# Altium footprint library VSONP.PCBLIB: 1 footprints
Each footprint in its own frame and in the unit in brackets; x right, y up, seen from the top. Pads: shape width x height; smd on the part's side, far side on the other; paste and mask are expansions set on the pad; w line width, h text height; cw(c..) or ccw(c..) is an arc to the next point about the centre after c.
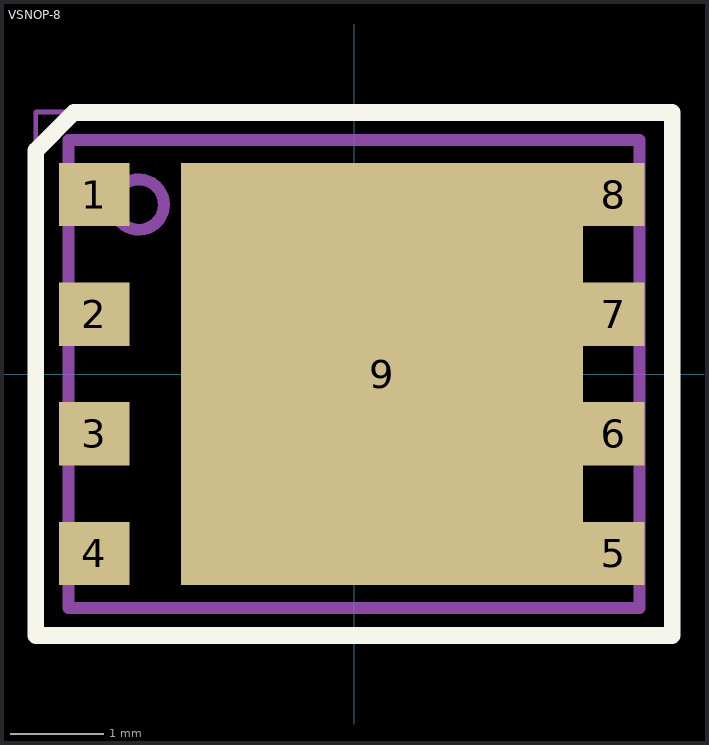
[diagram p0: the footprint, top view; thin cyan lines are the x and y axes]

## VSNOP-8 [mm] "TI recommended land pattern (nominal) M0139-01"
height 1.1
pads (9):
  rect 0.75x0.675 smd paste-0.1 mask+0.051: 1(-2.776,1.917) 2(-2.776,0.639) 3(-2.776,-0.639) 4(-2.776,-1.917)
  rect 0.655x0.675 smd paste-0.1 mask+0.051: 5(2.776,-1.917) 6(2.776,-0.639) 7(2.776,0.639) 8(2.776,1.917)
  rect 4.295x4.51 smd paste-2.2 mask+0.051: 9(0.301,0)
Top Overlay:
  lines w0.178: -3.4,-2.795 0,-2.795 3.4,-2.795 3.4,0 3.4,2.795 0,2.795 -2.995,2.795 -3.4,2.39 -3.4,0 -3.4,-2.795
Top Paste:
  region: 0.323,0.31 0.323,1.88 1.908,1.88 1.908,0.31
  region: 0.323,-0.31 0.323,-1.88 1.908,-1.88 1.908,-0.31
  region: -1.412,0.31 -1.412,1.88 -0.177,1.88 -0.177,0.31
  region: -1.412,-0.31 -1.412,-1.88 -0.177,-1.88 -0.177,-0.31
Top Assembly:
  circle w0.127: c-2.3,1.81 r0.269
  lines w0.127: -3.05,-2.5 3.05,-2.5 3.05,2.5 -3.05,2.5 -3.05,-2.5
Top Courtyard:
  lines w0.05: -3.4,-2.8 -3.4,2.8 3.4,2.8 3.4,-2.8 -3.4,-2.8
Top Designator:
  text ".Designator" at -1.529,-0.508 h1.02
Top Component Center:
  lines w0.05: -0.5,0 0.5,0 ; 0,-0.5 0,0.5
3D body "TI_DQJ8A.stp": height 1.11, standoff 0, extent -3.05,-2.5 3.05,2.5